# Altium footprint library DRIVER MOTION PAN.PcbLib: 34 footprints (part 2 of 3)
Each footprint in its own frame and in the unit in brackets; x right, y up, seen from the top. Pads: shape width x height; smd on the part's side, far side on the other; paste and mask are expansions set on the pad; w line width, h text height; cw(c..) or ccw(c..) is an arc to the next point about the centre after c.
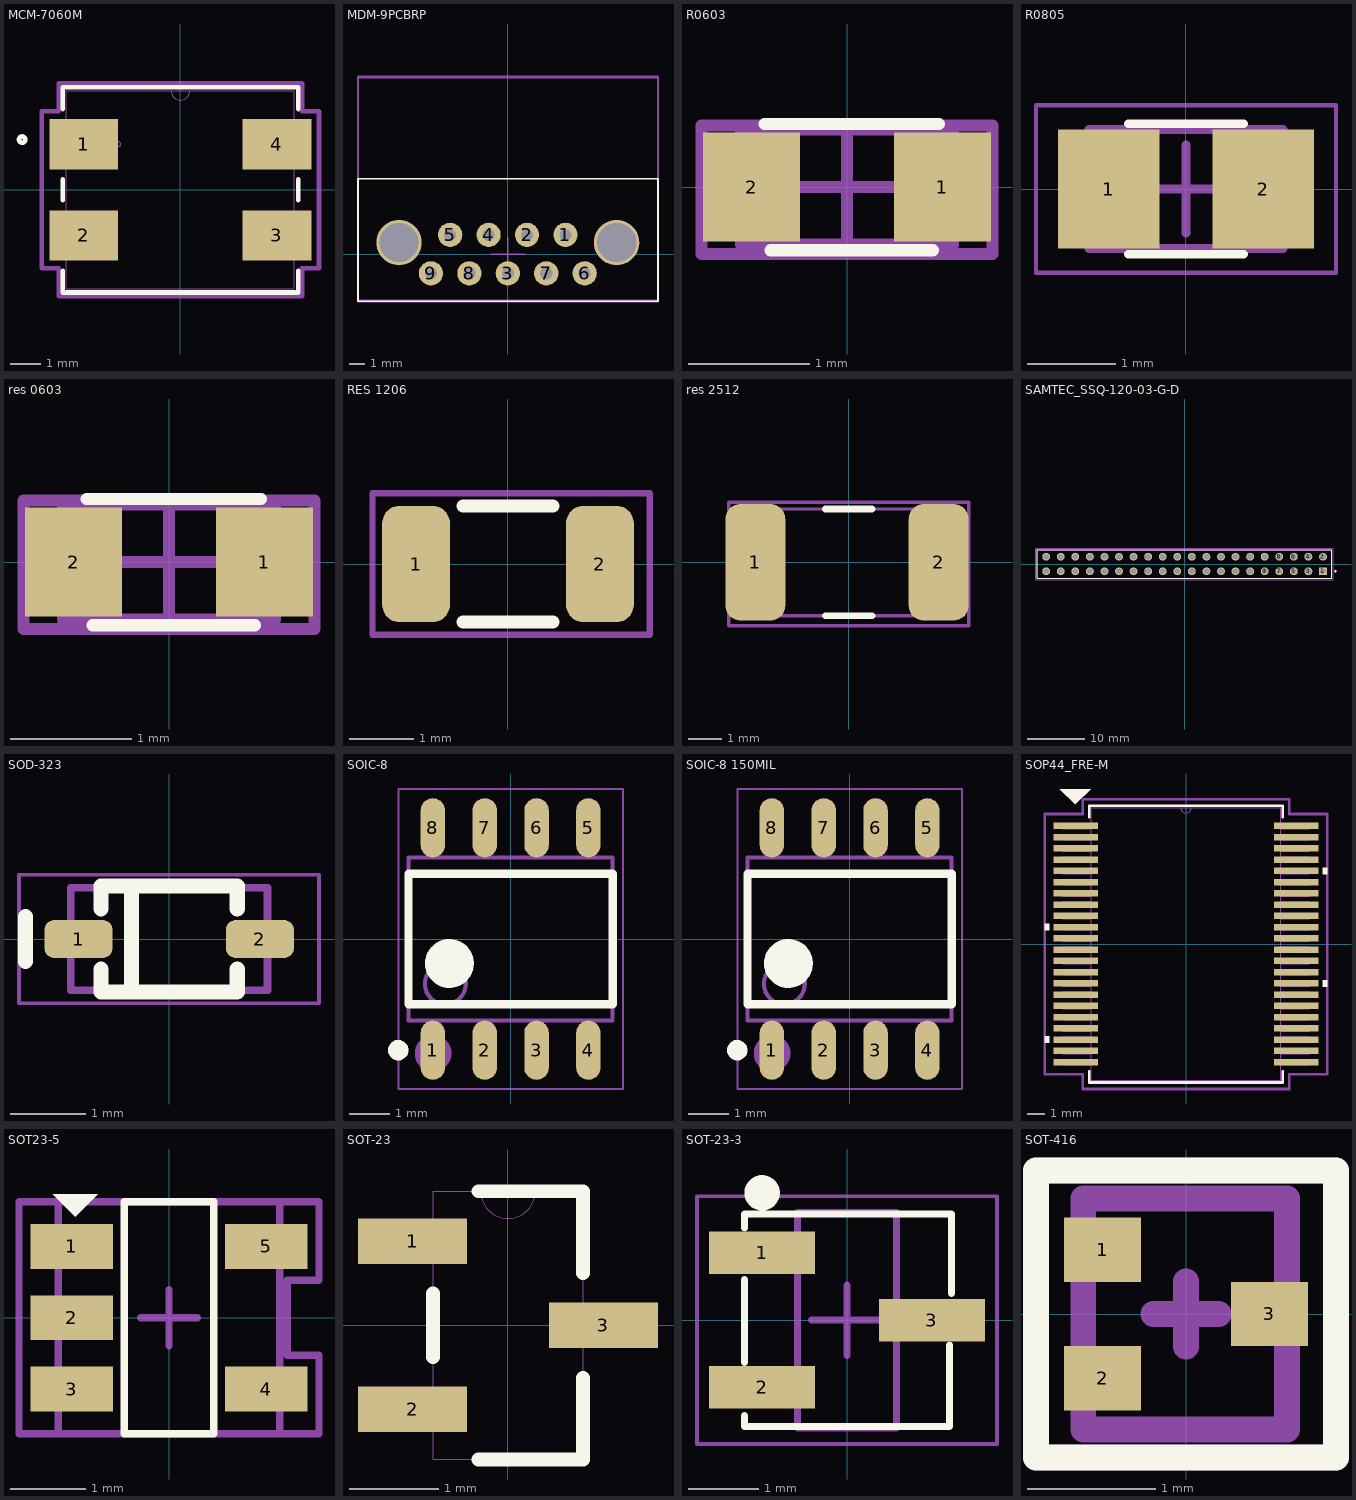
[diagram p1: the footprints below, top view; thin cyan lines are the x and y axes]

## MCM-7060M [mil]
pads (4):
  rect 89x65 smd paste+0 mask+0: 1(-125,59.06) 2(-125,-59.06) 3(125,-59.06) 4(125,59.06)
Top Overlay:
  circle w6: c-205,65 r4
  lines w6: -152.5,-104.66 -152.5,-133 152.5,-133 152.5,-104.66 ; -152.5,-13.46 -152.5,13.46 ; -152.5,104.66 -152.5,133 152.5,133 152.5,104.66 ; 152.5,-13.46 152.5,13.46
Mechanical 13:
  circle w0: c-80.5,59.06 r3
  lines w0: -12,128 ccw(c0,128) 12,128
  lines w1: -147.5,-128 147.5,-128 147.5,128 -147.5,128 -147.5,-128
Mechanical 15:
  lines w6: -179.5,-101.56 -179.5,101.56 -157.5,101.56 -157.5,138 157.5,138 157.5,101.56 179.5,101.56 179.5,-101.56 157.5,-101.56 157.5,-138 -157.5,-138 -157.5,-101.56 -179.5,-101.56
3D body "XMER_MCM-7060M-272-RU_MLU.step": height 150.12, standoff 0, extent -157.48,-127.99 157.48,127.99

## MDM-9PCBRP [mm]
height 2.54
pads (11):
  round 1.6 hole 0.8: 1(3.81,1.27) 2(1.27,1.27) 3(0,-1.27) 4(-1.27,1.27) 5(-3.81,1.27) 6(5.08,-1.27) 7(2.54,-1.27) 8(-2.54,-1.27) 9(-5.08,-1.27)
  round 3 hole 2.6: ""(-7.19,0.76) ""(7.19,0.76)
Top Overlay:
  lines w0.1: -9.9,-3.125 9.925,-3.125 9.925,4.975 -9.9,4.975 -9.9,-3.125
Bottom Overlay:
  text "9" at -4.86,-3 h0.76
  text "8" at -2.32,-3 h0.76
  text "3" at 0.22,-3 h0.76
  text "7" at 2.76,-3 h0.76
  text "1" at 3.9,2.425 h0.76
  text "1" at 3.9,2.425 h0.76
  text "2" at 1.36,2.425 h0.76
  text "4" at -1.18,2.425 h0.76
  text "5" at -3.72,2.425 h0.76
  text "6" at 5.3,-3 h0.76
Mechanical 13:
  lines w0.1: -9.9,11.75 -9.9,-3.05 9.925,-3.05 9.925,11.75 -9.875,11.75
Mechanical 15:
  lines w0.1: -1.125,0 1.125,0 ; 0,-1.125 0,1.125 ; -9.9,-3.15 -9.9,11.65 9.925,11.65 9.925,-3.15 -9.9,-3.15
3D body "MDM9PCBRP.stp": height 7.58, standoff -2.74, extent -9.833,-3.055 9.852,11.753

## R0603 [mm]
height 2.54
pads (2):
  rect 0.8x0.9 smd: 1(0.787,0) 2(-0.787,0)
Top Overlay:
  lines w0.1: -0.68,0.52 0.76,0.52 ; -0.63,-0.52 0.71,-0.52
Mechanical 13:
  lines w0.1: -0.875,-0.475 0.875,-0.475 0.875,0.475 -0.875,0.475 -0.875,-0.475
Mechanical 15:
  lines w0.1: -0.475,0 0.475,0 ; 0,-0.475 0,0.475 ; -1.2,-0.55 1.2,-0.55 1.2,0.508 -1.2,0.508 -1.2,-0.55
3D body "User Library-RES_1609-0603.step": height 0.56, standoff 0, extent -0.811,-0.4 0.889,0.4

## R0805 [mm]
height 2.54
pads (2):
  rect 1.15x1.35 smd: 1(-0.875,0) 2(0.875,0)
Top Overlay:
  lines w0.1: -0.65,-0.74 0.65,-0.74 ; -0.65,0.74 0.65,0.74
Mechanical 13:
  lines w0.1: -1.1,-0.675 1.1,-0.675 1.1,0.675 -1.1,0.675 -1.1,-0.675
Mechanical 15:
  lines w0.05: -1.7,-0.95 1.7,-0.95 1.7,0.95 -1.7,0.95 -1.7,-0.95
  lines w0.1: -0.5,0 0.5,0 ; 0,-0.5 0,0.5
3D body: height 0.7, standoff 0, extent 0.7,-0.675 1.1,0.675
3D body: height 0.7, standoff 0, extent -1.1,-0.675 -0.7,0.675
3D body "User Library-RESC2012X05N.step": height 0.45, standoff 0, extent -1,-0.625 1,0.625

## res 0603 [mm]
height 2.54
pads (2):
  rect 0.8x0.9 smd: 1(0.787,0) 2(-0.787,0)
Top Overlay:
  lines w0.1: -0.68,0.52 0.76,0.52 ; -0.63,-0.52 0.71,-0.52
Mechanical 13:
  lines w0.1: -0.875,-0.475 -0.875,0.475 0.875,0.475 0.875,-0.475 -0.875,-0.475
Mechanical 15:
  lines w0.1: -0.475,0 0.475,0 ; 0,-0.475 0,0.475 ; -1.2,-0.55 -1.2,0.508 1.2,0.508 1.2,-0.55 -1.2,-0.55
3D body "User Library-RES_1609-0603.step": height 0.56, standoff 0, extent -0.811,-0.4 0.889,0.4

## RES 1206 [mm]
height 2.54
pads (2):
  rrect50% 1.05x1.8 smd mask+0.05: 1(-1.425,0) 2(1.425,0)
Top Overlay:
  lines w0.2: -0.7,-0.9 0.7,-0.9 ; -0.7,0.9 0.7,0.9
Mechanical 13:
  lines w0.1: -2.1,-1.1 -2.1,1.1 2.2,1.1 2.2,-1.1 -2.1,-1.1
Mechanical 15:
  lines w0.1: -2.1,-1.1 -2.1,1.1 2.2,1.1 2.2,-1.1 -2.1,-1.1
3D body "User Library-SMD RESISTOR-1206.step": height 0.6, standoff 0, extent -1.6,-0.8 1.6,0.8

## res 2512 [mm]
height 2.54
pads (2):
  rrect50% 1.8x3.5 smd mask+0.05: 1(-2.8,0) 2(2.7,0)
Top Overlay:
  lines w0.2: -0.7,-1.6 0.7,-1.6 ; -0.7,1.6 0.7,1.6
Mechanical 13:
  lines w0.1: -3.2,-1.6 3.175,-1.6 3.175,1.6 -3.2,1.6 -3.2,-1.6
Mechanical 15:
  lines w0.1: -3.6,-1.9 3.6,-1.9 3.6,1.8 -3.6,1.8 -3.6,-1.9
3D body "CircuitWorks-RESISTOR 2512.step": height 0.62, standoff 0.01, extent -3.175,-1.63 3.175,1.63

## SAMTEC_SSQ-120-03-G-D [mm]
pads (40):
  rect 1.37x1.37 hole 1.02: 1(24.13,-1.27)
  round 1.37 hole 1.02: 2(24.13,1.27) 3(21.59,-1.27) 4(21.59,1.27) 5(19.05,-1.27) 6(19.05,1.27) 7(16.51,-1.27) 8(16.51,1.27) 9(13.97,-1.27) 10(13.97,1.27) 11(11.43,-1.27) 12(11.43,1.27) 13(8.89,-1.27) 14(8.89,1.27) 15(6.35,-1.27) 16(6.35,1.27) 17(3.81,-1.27) 18(3.81,1.27) 19(1.27,-1.27) 20(1.27,1.27) 21(-1.27,-1.27) 22(-1.27,1.27) 23(-3.81,-1.27) 24(-3.81,1.27) 25(-6.35,-1.27) 26(-6.35,1.27) 27(-8.89,-1.27) 28(-8.89,1.27) 29(-11.43,-1.27) 30(-11.43,1.27) 31(-13.97,-1.27) 32(-13.97,1.27) 33(-16.51,-1.27) 34(-16.51,1.27) 35(-19.05,-1.27) 36(-19.05,1.27) 37(-21.59,-1.27) 38(-21.59,1.27) 39(-24.13,-1.27) 40(-24.13,1.27)
Top Overlay:
  circle w0.2: c26.305,-1.27 r0.1
  lines w0.2: -25.655,-2.475 -25.655,2.475 25.655,2.475 25.655,-2.475 -25.655,-2.475
Mechanical 13:
  circle w0.2: c26.305,-1.27 r0.1
  lines w0.1: -25.655,-2.475 -25.655,2.475 ; -25.655,-2.475 25.655,-2.475 ; -25.655,-2.475 -25.655,2.475 ; -25.655,2.475 25.655,2.475 ; -25.655,2.475 25.655,2.475 ; 25.655,-2.475 25.655,2.475 ; 25.655,-2.475 25.655,2.475
Mechanical 15:
  lines w0.05: -25.905,-2.725 -25.905,2.725 25.905,2.725 25.905,-2.725 -25.905,-2.725
3D body "SSQ-120-03-G-D.stp": height 8.51, standoff -10.01, extent -25.654,-2.413 25.654,2.54

## SOD-323 [mm] "SODFL, 2-Leads, Body 1.25x2.50mm, IPC Medium Density"
height 0.9
pads (2):
  rrect50% 0.9x0.5 smd mask+0.05: 1(-1.2,0) 2(1.2,0)
Top Overlay:
  lines w0.2: -1.9,-0.3 -1.9,0.3 ; -0.9,-0.4 -0.9,-0.7 0.9,-0.7 0.9,-0.4 ; -0.9,0.4 -0.9,0.7 0.9,0.7 0.9,0.4 ; -0.5,-0.7 -0.5,0.7
Mechanical 13:
  lines w0.1: -1.3,-0.675 -1.3,0.675 1.3,0.675 1.3,-0.675 -1.3,-0.675
Mechanical 15:
  lines w0.05: -1.987,-0.85 -1.987,0.85 1.981,0.85 1.981,-0.85 -1.987,-0.85
3D body "SOD-323.STEP": height 1.1, standoff 0, extent -1.3,-0.675 1.3,0.675

## SOIC-8 [mm]
height 2.54
pads (8):
  oval 0.6x1.45 smd mask+0.05: 1(-1.905,-2.725) 2(-0.635,-2.725) 3(0.635,-2.725) 4(1.905,-2.725) 5(1.905,2.725) 6(0.635,2.725) 7(-0.635,2.725) 8(-1.905,2.725)
Top Overlay:
  circle w0.25: c-2.755,-2.725 r0.125
  circle w0.6: c-1.5,-0.6 r0.3
  lines w0.2: -2.5,-1.6 2.5,-1.6 2.5,1.6 -2.5,1.6 -2.5,-1.6
Mechanical 13:
  circle w0.1: c-1.6,-1.1 r0.5
  lines w0.1: -2.5,-2 2.5,-2 2.5,2 -2.5,2 -2.5,-2
Mechanical 15:
  circle w0.7: c-1.9,-2.8 r0.1
  lines w0.05: -2.75,-3.675 2.75,-3.675 2.75,3.675 -2.75,3.675 -2.75,-3.675
3D body "STLM75.step": height 1.75, standoff 0, extent -2.5,-3 2.5,3

## SOIC-8 150MIL [mm]
height 2.54
pads (8):
  oval 0.6x1.45 smd mask+0.05: 1(-1.905,-2.725) 2(-0.635,-2.725) 3(0.635,-2.725) 4(1.905,-2.725) 5(1.905,2.725) 6(0.635,2.725) 7(-0.635,2.725) 8(-1.905,2.725)
Top Overlay:
  circle w0.25: c-2.755,-2.725 r0.125
  circle w0.6: c-1.5,-0.6 r0.3
  lines w0.2: -2.5,-1.6 2.5,-1.6 2.5,1.6 -2.5,1.6 -2.5,-1.6
Mechanical 13:
  circle w0.1: c-1.6,-1.1 r0.5
  lines w0.1: -2.5,-2 2.5,-2 2.5,2 -2.5,2 -2.5,-2
Mechanical 15:
  circle w0.7: c-1.9,-2.8 r0.1
  lines w0.05: -2.75,-3.675 2.75,-3.675 2.75,3.675 -2.75,3.675 -2.75,-3.675
3D body "SOIC-8-1.STEP": height 1.75, standoff 0, extent -2.45,-3 2.45,3

## SOP44_FRE-M [mil]
height 100
pads (44):
  rect 103x15 smd paste+0 mask+0: 1(-255,273) 2(-255,247) 3(-255,221) 4(-255,195) 5(-255,169) 6(-255,143) 7(-255,117) 8(-255,91) 9(-255,65) 10(-255,39) 11(-255,13) 12(-255,-13) 13(-255,-39) 14(-255,-65) 15(-255,-91) 16(-255,-117) 17(-255,-143) 18(-255,-169) 19(-255,-195) 20(-255,-221) 21(-255,-247) 22(-255,-273) 23(255,-273) 24(255,-247) 25(255,-221) 26(255,-195) 27(255,-169) 28(255,-143) 29(255,-117) 30(255,-91) 31(255,-65) 32(255,-39) 33(255,-13) 34(255,13) 35(255,39) 36(255,65) 37(255,91) 38(255,117) 39(255,143) 40(255,169) 41(255,195) 42(255,221) 43(255,247) 44(255,273)
Top Overlay:
  region: -316.5,46.5 -326.5,46.5 -326.5,31.5 -316.5,31.5
  region: -316.5,-213.5 -326.5,-213.5 -326.5,-228.5 -316.5,-228.5
  region: 316.5,-83.5 326.5,-83.5 326.5,-98.5 316.5,-98.5
  region: 316.5,176.5 326.5,176.5 326.5,161.5 316.5,161.5
  region: -291.34,358.27 -220.47,358.27 -255.91,322.83
  lines w6: -223.5,-293.6 -223.5,-320 223.5,-320 223.5,-293.6 ; -223.5,293.6 -223.5,320 223.5,320 223.5,293.6
Mechanical 13:
  drawing of 181 lines, arcs and shapes, not listed
Mechanical 15:
  lines w6: -326.5,-300.5 -326.5,300.5 -238.5,300.5 -238.5,335 238.5,335 238.5,300.5 326.5,300.5 326.5,-300.5 238.5,-300.5 238.5,-335 -238.5,-335 -238.5,-300.5 -326.5,-300.5
3D body "SOP44_FRE.step": height 67.09, standoff 0, extent -285,-315 283.98,315

## SOT23-5 [mm]
height 2.54
pads (5):
  rect 1.1x0.6 smd: 1(-1.3,0.95) 2(-1.3,0) 3(-1.3,-0.95) 4(1.3,-0.95) 5(1.3,0.95)
Top Overlay:
  region: -1.55,1.65 -0.95,1.65 -1.25,1.35
  lines w0.1: -0.6,-1.55 0.6,-1.55 0.6,1.55 -0.6,1.55 -0.6,-1.55
Mechanical 13:
  lines w0.1: -1.475,-1.55 -1.475,1.55 1.475,1.55 1.475,-1.55 -1.475,-1.55
Mechanical 15:
  lines w0.1: -0.375,0 0.375,0 ; 0,-0.375 0,0.375 ; -2,-1.55 2,-1.55 2,-0.5 1.575,-0.5 1.575,0.5 2,0.5 2,1.55 -2,1.55 -2,-1.55
3D body "SOT23-5.stp": height 1.2, standoff 0.02, extent -1.418,-1.5 1.418,1.5

## SOT-23 [mil]
height 100
pads (3):
  rect 48x20 smd: 1(-41.99,37) 2(-41.99,-37) 3(42.01,0)
Top Overlay:
  lines w6: -32.99,-14 -32.99,14 ; -12.99,-59 33.01,-59 33.01,-23 ; -12.99,59 12.01,59 33.01,59 33.01,23
Mechanical 1:
  lines w0: -32.99,-46 -48.99,-46 -48.99,-29 -32.99,-29 ; -32.99,-46 -32.99,-29 ; -32.99,-46 -32.99,-59 33.01,-59 33.01,-9 ; -32.99,-29 -32.99,29 ; -32.99,29 -48.99,29 -48.99,46 -32.99,46 ; -32.99,29 -32.99,46 ; -32.99,46 -32.99,59 -11.99,59 ; -11.99,59 ccw(c0.01,59) 12.01,59 ; -11.99,59 12.01,59 ; 12.01,59 33.01,59 33.01,9 ; 33.01,-9 49.01,-9 49.01,9 33.01,9 ; 33.01,-9 33.01,9
3D body "CircuitWorks-SOT-23.step": height 41.34, standoff -1.97, extent -49.21,-59.05 49.22,59.06

## SOT-23-3 [mm] "SOT23, 3-Leads, Body 2.92x2.37mm, Pitch 0.95mm, IPC Medium Density"
height 1.12
pads (3):
  rect 1.5x0.6 smd: 1(-1.2,0.95) 2(-1.2,-0.95) 3(1.2,0)
Top Overlay:
  circle w0.25: c-1.2,1.8 r0.125
  lines w0.1: -1.45,-1.35 -1.45,-1.5 1.45,-1.5 1.45,-0.35 ; -1.45,-0.6 -1.45,0.575 ; -1.45,1.3 -1.45,1.5 -1.425,1.5 1.475,1.5 1.475,0.375
Mechanical 13:
  lines w0.1: -0.7,-1.52 0.7,-1.52 0.7,1.52 -0.7,1.52 -0.7,-1.52
Mechanical 15:
  lines w0.05: -2.12,-1.75 2.12,-1.75 2.12,1.75 -2.12,1.75 -2.12,-1.75
  lines w0.1: -0.5,0 0.5,0 ; 0,-0.5 0,0.5
3D body "User Library-SOT23-3.step": height 1.3, standoff 0, extent -1.4,-1.45 1.4,1.45

## SOT-416 [mm] "NXP recommended footprint."
height 0.95
pads (3):
  rect 0.6x0.5 smd: 1(-0.65,0.5) 2(-0.65,-0.5) 3(0.65,0)
Top Overlay:
  lines w0.203: -1.168,-1.118 1.168,-1.118 1.168,1.118 -1.168,1.118 -1.168,-1.118
Mechanical 13:
  lines w0.2: -0.254,0 0.254,0 ; 0,-0.254 0,0.254 ; -0.8,-0.9 0.787,-0.9 0.787,0.9 -0.8,0.9 -0.8,-0.9
Mechanical 15:
  lines w0.2: -1.168,-1.118 -1.168,1.118 1.168,1.118 1.168,-1.118 -1.168,-1.118
3D body "SOT-416.stp": height 0.82, standoff 0.02, extent -0.8,-0.9 0.8,0.9